# Altium footprint library PAN-EEV-EB-J21.PcbLib: 1 footprints
Each footprint in its own frame and in the unit in brackets; x right, y up, seen from the top. Pads: shape width x height; smd on the part's side, far side on the other; paste and mask are expansions set on the pad; w line width, h text height; cw(c..) or ccw(c..) is an arc to the next point about the centre after c.
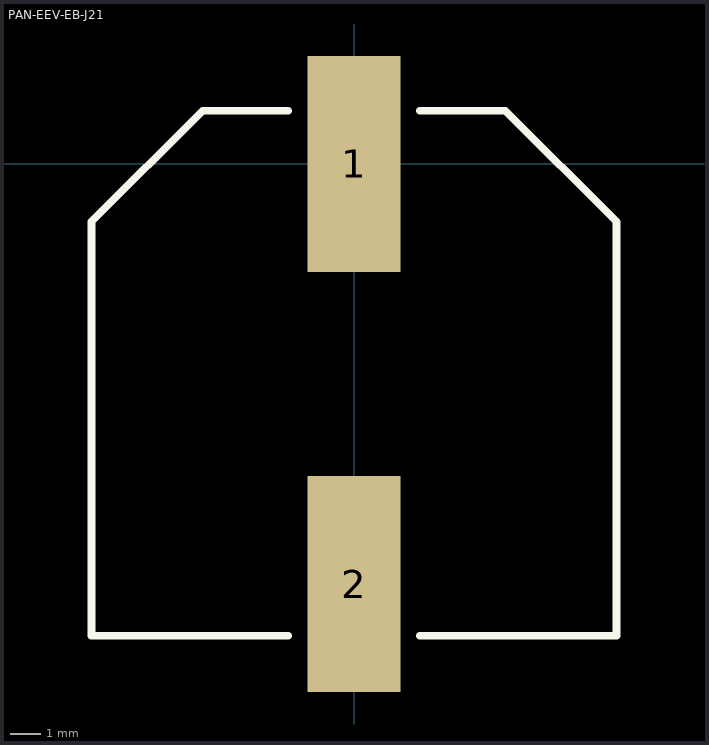
[diagram p0: the footprint, top view; thin cyan lines are the x and y axes]

## PAN-EEV-EB-J21 [mil]
pads (2):
  rect 120x280 smd: 1(0,0) 2(0,-544)
Top Overlay:
  lines w10: -85,-611 -340,-611 -340,-75 -196,69 -85,69 ; 85,-611 340,-611 340,-75 196,69 85,69
3D body: height 866.14, standoff 0, extent -324,-596 323.05,52.32